# Altium schematic symbol library IC_FAN5333.SchLib: 1 symbol
Pins are listed as number, name and electrical type; pins without a type are passive.

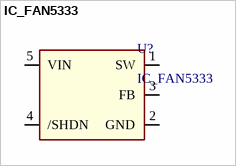
[diagram p0: symbol IC_FAN5333]

## IC_FAN5333
designator U?
pins: 1 SW, 2 GND, 3 FB, 4 /SHDN, 5 VIN